# Altium schematic symbol library Schematic-FragasLab.SchLib: 425 symbols (part 4 of 7)
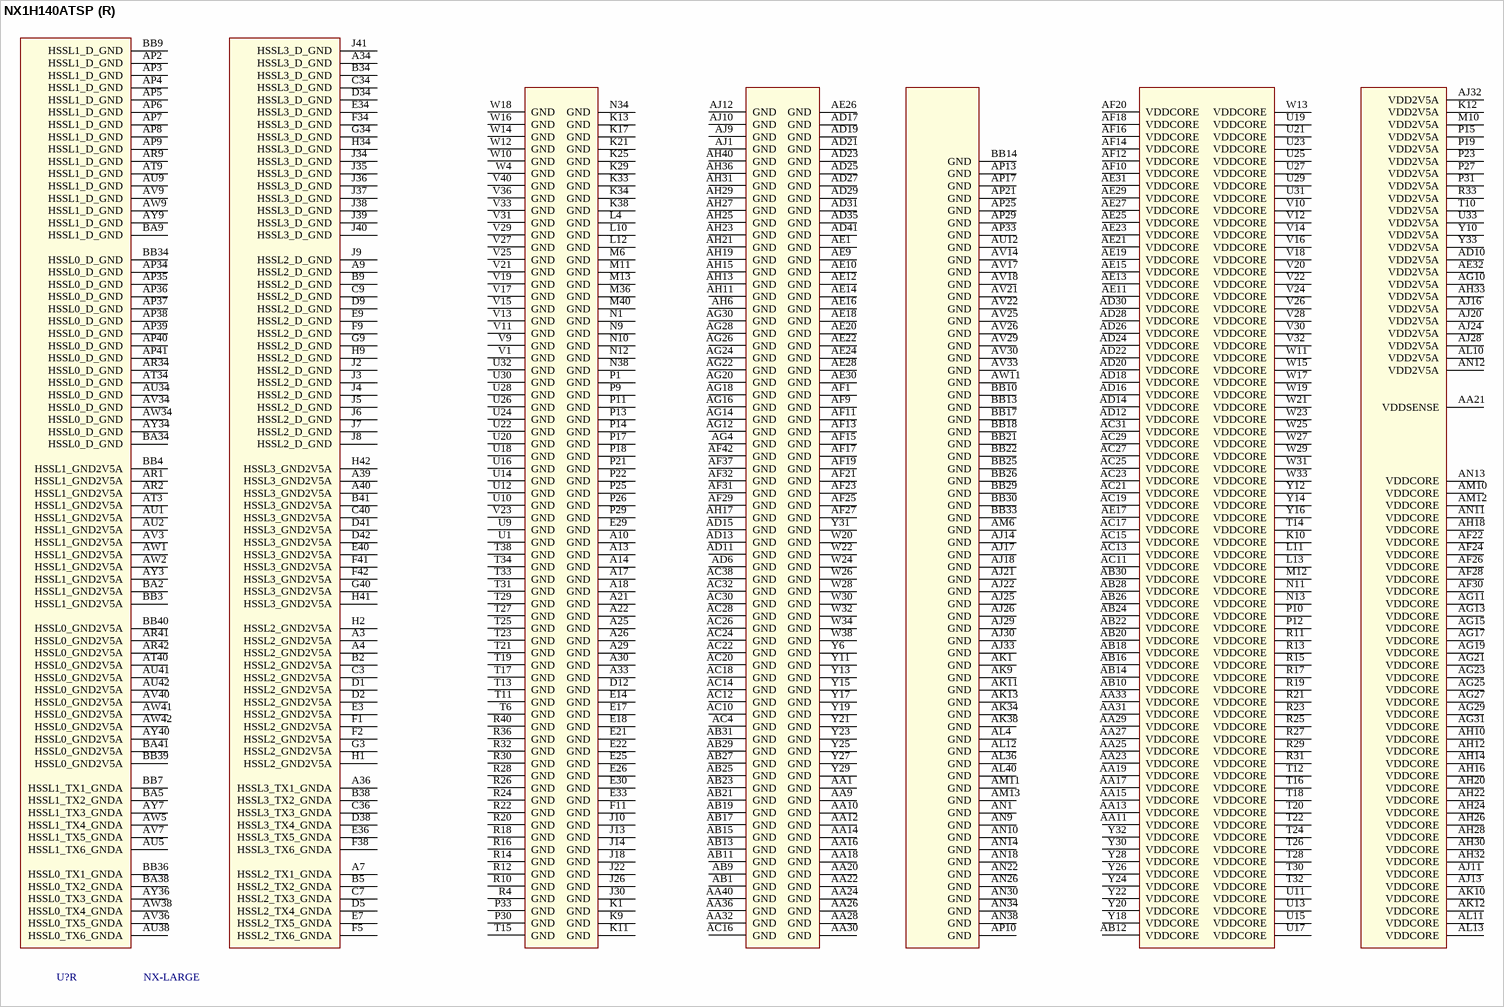
[diagram p45: symbol NX1H140ATSP]

## NX1H140ATSP
designator U?, comment value NX-LARGE  (hidden comment: NG-LARGE)
NX-LARGE plastic in LGA-1752 NG-LARGE with 137 KLUT / 129Kreg / ARM-R5; Part manufacturer: NANOXPLORE; Power: 0.063W; Voltage: 1.2V; ComponentLink1Description: Manufacturer Link; ComponentLink1URL: http://www.panasonic.com/industrial/components/resistive_products.htm; ComponentLink2Description: Datasheet; ComponentLink2URL: http://www.panasonic.com/industrial/components/pdf/AOA0000CE2.pdf; Part number: NX-LARGE; Supplier code: TBD; Supplier: Nanoxplore; Footprint: BGA-1752
footprint CLGA-1752
part A pins: AB32 VDDIO_SERVICE, AB33 TMS, AB34 TCK, AB35 MODE0, AB36 MODE1, AB37 MODE2, AB38 VDDIO_SERVICE, AB39 SOUT_N, AB40 DOUT_N, AB41 SIN_N, AB42 DIN_N, AC33 TDO, AC34 TDI, AC35 TRST, AC36 ERROR, AC37 RST_HARD_N, AC39 SOUT_P, AC40 DOUT_P, AC41 SIN_P, AC42 DIN_P, AD32 D3, AD33 D2, AD34 D1, AD36 D0, AD37 FABRIC_USER0, AD38 FABRIC_USER1, AD39 FABRIC_USER3, AD40 FABRIC_USER2, AD42 VDDIO_SW, AE33 D6, AE34 D7, AE35 D5, AE36 D4, AE37 READY, AE38 TYPE1, AE39 POK, AE40 ID1, AE41 CLK, AE42 CLK_OSC, AF33 D10, AF34 D9, AF35 D8, AF36 D11, AF38 DATA_OE, AF39 ID3, AF40 ID2, AF41 ID0, AG32 VDDIO_SERVICE, AG33 D13, AG34 D12, AG35 D14, AG36 D15, AG37 VDDIO_SERVICE, AG38 TYPE0, AG39 TRIGGER, AG40 CS, AG41 RST_SOFT_N, AG42 VDDIO_SERVICE
part B pins: AA34 VDDIO_03, AA35 IO_B03D02N, AA37 IO_B03D08N, AA38 VDDIO_03, AA39 IO_B03D05N, AA41 IO_B03D09N, AA42 VDDIO_03, K35 IO_B00D01P_CLK, K36 VDDIO_00, K37 IO_B00D06N, K39 IO_B00D04N, K40 VDDIO_00, K41 IO_B00D03P, K42 IO_B00D03N, L34 IO_B00D01N, L35 IO_B00D02P_CLK, L36 IO_B00D06P, L37 IO_B00D08P, L38 IO_B00D04P, L39 IO_B00D05P, L40 IO_B00D07N, L41 IO_B00D07P, L42 IO_B00D09P, M34 VDDIO_00, M35 IO_B00D02N, M37 IO_B00D08N, M38 VDDIO_00, M39 IO_B00D05N, M41 IO_B00D09N, M42 VDDIO_00, N35 IO_B01D01P, N36 VDDIO_01, N37 IO_B01D06N, N39 IO_B01D04N, N40 VDDIO_01, N41 IO_B01D03P, N42 IO_B01D03N, P34 IO_B01D01N, P35 IO_B01D02P, P36 IO_B01D06P, P37 IO_B01D08P, P38 IO_B01D04P, P39 IO_B01D05P, P40 IO_B01D07N, P41 IO_B01D07P, P42 IO_B01D09P, R34 VDDIO_01, R35 IO_B01D02N, R37 IO_B01D08N, R38 VDDIO_01, R39 IO_B01D05N, R41 IO_B01D09N, R42 VDDIO_01, T35 IO_B02D01P, T36 VDDIO_02, T37 IO_B02D06N, T39 IO_B02D04N, T40 VDDIO_02, T41 IO_B02D03P, T42 IO_B02D03N, U34 IO_B02D01N, U35 IO_B02D02P, U36 IO_B02D06P, U37 IO_B02D08P, U38 IO_B02D04P, U39 IO_B02D05P, U40 IO_B02D07N, U41 IO_B02D07P, U42 IO_B02D09P, V34 VDDIO_02, V35 IO_B02D02N, V37 IO_B02D08N, V38 VDDIO_02, V39 IO_B02D05N, V41 IO_B02D09N, V42 VDDIO_02, W35 IO_B03D01P, W36 VDDIO_03, W37 IO_B03D06N, W39 IO_B03D04N, W40 VDDIO_03, W41 IO_B03D03P, W42 IO_B03D03N, Y34 IO_B03D01N, Y35 IO_B03D02P, Y36 IO_B03D06P, Y37 IO_B03D08P, Y38 IO_B03D04P, Y39 IO_B03D05P, Y40 IO_B03D07N, Y41 IO_B03D07P, Y42 IO_B03D09P
part C pins: AH34 VDDIO_04, AH35 IO_B04D02N, AH37 IO_B04D08N, AH38 VDDIO_04, AH39 IO_B04D05N, AH41 IO_B04D09N, AH42 VDDIO_04, AJ34 IO_B04D01N, AJ35 IO_B04D02P, AJ36 IO_B04D06P, AJ37 IO_B04D08P, AJ38 IO_B04D04P, AJ39 IO_B04D05P, AJ40 IO_B04D07N, AJ41 IO_B04D07P, AJ42 IO_B04D09P, AK35 IO_B04D01P, AK36 VDDIO_04, AK37 IO_B04D06N, AK39 IO_B04D04N, AK40 VDDIO_04, AK41 IO_B04D03P, AK42 IO_B04D03N, AL34 VDDIO_05, AL35 IO_B05D02N, AL37 IO_B05D08N, AL38 VDDIO_05, AL39 IO_B05D05N, AL41 IO_B05D09N, AL42 VDDIO_05, AM34 IO_B05D01N, AM35 IO_B05D02P_CLK, AM36 IO_B05D06P, AM37 IO_B05D08P, AM38 IO_B05D04P, AM39 IO_B05D05P, AM40 IO_B05D07N, AM41 IO_B05D07P, AM42 IO_B05D09P, AN35 IO_B05D01P_CLK, AN36 VDDIO_05, AN37 IO_B05D06N, AN39 IO_B05D04N, AN40 VDDIO_05, AN41 IO_B05D03P, AN42 IO_B05D03N
part D pins: AK2 VDDIO_12, AK3 IO_B12D08P, AK4 IO_B12D10N, AK5 IO_B12D10P, AK6 IO_B12D12P, AK7 IO_B12D11N, AK8 IO_B12D11P, AL1 IO_B12D07N, AL2 IO_B12D07P, AL3 IO_B12D08N, AL5 IO_B12D12N, AL6 VDDIO_12, AL7 IO_B12D09N, AL8 IO_B12D09P, AL9 VDDIO_12, AM1 IO_B12D06N, AM2 IO_B12D06P, AM3 IO_B12D05P, AM4 VDDIO_12, AM5 IO_B12D01N, AM7 IO_B12D04N, AM8 IO_B12D04P, AM9 VDDIO_12, AN2 VDDIO_12, AN3 IO_B12D05N, AN4 IO_B12D03N, AN5 IO_B12D03P, AN6 IO_B12D01P, AN7 IO_B12D02N, AN8 IO_B12D02P, AP11 VDDIO_11, AP12 VDDIO_11, AR10 IO_B11D11P_CLK, AR11 IO_B11D09P, AR12 IO_B11D04P, AR13 IO_B11D02P, AT10 IO_B11D11N, AT11 IO_B11D09N, AT12 IO_B11D04N, AT13 IO_B11D02N, AU10 IO_B11D12P_CLK, AU11 VDDIO_11, AU13 IO_B11D01P, AV10 IO_B11D10P, AV11 IO_B11D12N, AV12 IO_B11D01N, AV13 IO_B11D03P, AW10 IO_B11D10N, AW12 VDDIO_11, AW13 IO_B11D03N, AY10 IO_B11D08P, AY11 IO_B11D08N, AY12 IO_B11D05P, AY13 IO_B11D05N, BA10 VDDIO_11, BA11 IO_B11D07P, BA12 IO_B11D06P, BA13 VDDIO_11, BB11 IO_B11D07N, BB12 IO_B11D06N
part E pins: AB2 VDDIO_14, AB3 IO_B14D08P, AB4 IO_B14D10N, AB5 IO_B14D10P, AB6 IO_B14D12P, AB7 IO_B14D11N, AB8 IO_B14D11P, AC1 IO_B14D07N, AC2 IO_B14D07P, AC3 IO_B14D08N, AC5 IO_B14D12N, AC6 VDDIO_14, AC7 IO_B14D09N, AC8 IO_B14D09P, AC9 VDDIO_14, AD1 IO_B14D06N, AD2 IO_B14D06P, AD3 IO_B14D05P, AD4 VDDIO_14, AD5 IO_B14D01N, AD7 IO_B14D04N, AD8 IO_B14D04P, AD9 VDDIO_14, AE2 VDDIO_14, AE3 IO_B14D05N, AE4 IO_B14D03N, AE5 IO_B14D03P, AE6 IO_B14D01P, AE7 IO_B14D02N, AE8 IO_B14D02P, AF2 VDDIO_13, AF3 IO_B13D08P, AF4 IO_B13D10N, AF5 IO_B13D10P, AF6 IO_B13D12P, AF7 IO_B13D11N, AF8 IO_B13D11P, AG1 IO_B13D07N, AG2 IO_B13D07P, AG3 IO_B13D08N, AG5 IO_B13D12N, AG6 VDDIO_13, AG7 IO_B13D09N, AG8 IO_B13D09P, AG9 VDDIO_13, AH1 IO_B13D06N, AH2 IO_B13D06P, AH3 IO_B13D05P, AH4 VDDIO_13, AH5 IO_B13D01N, AH7 IO_B13D04N, AH8 IO_B13D04P, AH9 VDDIO_13, AJ2 VDDIO_13, AJ3 IO_B13D05N, AJ4 IO_B13D03N, AJ5 IO_B13D03P, AJ6 IO_B13D01P, AJ7 IO_B13D02N, AJ8 IO_B13D02P
part F pins: AA2 VDDIO_15, AA3 IO_B15D05N, AA4 IO_B15D03N, AA5 IO_B15D03P, AA6 IO_B15D01P, AA7 IO_B15D02N, AA8 IO_B15D02P, P2 VDDIO_16, P3 IO_B16D08P, P4 IO_B16D10N, P5 IO_B16D10P, P6 IO_B16D12P, P7 IO_B16D11N, P8 IO_B16D11P, R1 IO_B16D07N, R2 IO_B16D07P, R3 IO_B16D08N, R5 IO_B16D12N, R6 VDDIO_16, R7 IO_B16D09N, R8 IO_B16D09P, R9 VDDIO_16, T1 IO_B16D06N, T2 IO_B16D06P, T3 IO_B16D05P, T4 VDDIO_16, T5 IO_B16D01N, T7 IO_B16D04N, T8 IO_B16D04P, T9 VDDIO_16, U2 VDDIO_16, U3 IO_B16D05N, U4 IO_B16D03N, U5 IO_B16D03P, U6 IO_B16D01P, U7 IO_B16D02N, U8 IO_B16D02P, V2 VDDIO_15, V3 IO_B15D08P, V4 IO_B15D10N, V5 IO_B15D10P, V6 IO_B15D12P, V7 IO_B15D11N, V8 IO_B15D11P, W1 IO_B15D07N, W2 IO_B15D07P, W3 IO_B15D08N, W5 IO_B15D12N, W6 VDDIO_15, W7 IO_B15D09N, W8 IO_B15D09P, W9 VDDIO_15, Y1 IO_B15D06N, Y2 IO_B15D06P, Y3 IO_B15D05P, Y4 VDDIO_15, Y5 IO_B15D01N, Y7 IO_B15D04N, Y8 IO_B15D04P, Y9 VDDIO_15
part G pins: A11 IO_B18D06N, A12 IO_B18D07N, B10 VDDIO_18, B11 IO_B18D06P, B12 IO_B18D07P, B13 VDDIO_18, C10 IO_B18D05N, C11 IO_B18D05P, C12 IO_B18D08N, C13 IO_B18D08P, D10 IO_B18D03N, D11 VDDIO_18, D13 IO_B18D10N, E10 IO_B18D03P, E11 IO_B18D01N, E12 IO_B18D12N, E13 IO_B18D10P, F10 IO_B18D01P_CLK, F12 VDDIO_18, F13 IO_B18D12P, G10 IO_B18D02N, G11 IO_B18D04N, G12 IO_B18D09N, G13 IO_B18D11N, H10 IO_B18D02P_CLK, H11 IO_B18D04P, H12 IO_B18D09P, H13 IO_B18D11P, J11 VDDIO_18, J12 VDDIO_18, K2 VDDIO_17, K3 IO_B17D08P, K4 IO_B17D10N, K5 IO_B17D10P, K6 IO_B17D12P, K7 IO_B17D11N, K8 IO_B17D11P, L1 IO_B17D07N, L2 IO_B17D07P, L3 IO_B17D08N, L5 IO_B17D12N, L6 VDDIO_17, L7 IO_B17D09N, L8 IO_B17D09P, L9 VDDIO_17, M1 IO_B17D06N, M2 IO_B17D06P, M3 IO_B17D05P, M4 VDDIO_17, M5 IO_B17D01N, M7 IO_B17D04N, M8 IO_B17D04P, M9 VDDIO_17, N2 VDDIO_17, N3 IO_B17D05N, N4 IO_B17D03N, N5 IO_B17D03P, N6 IO_B17D01P, N7 IO_B17D02N, N8 IO_B17D02P
part H pins: AJ27 VTO_07, AJ31 VTO_06, AK26 IO_B07D02P_DQ_SWSO, AK27 VDDIO_07, AK28 VDDIO_07, AK29 IO_B07D01P_DQ_SWDO, AK30 IO_B06D02P_DQ_SWSO, AK31 VDDIO_06, AK32 VDDIO_06, AK33 IO_B06D01P_DQ_SWDO, AL26 IO_B07D02N_DQ_SWSO, AL27 IO_B07D03N_DQS_SWDI, AL28 IO_B07D03P_DQS_SWDI, AL29 IO_B07D01N_DQ_SWDO, AL30 IO_B06D02N_DQ_SWSO, AL31 IO_B06D03N_DQS_SWDI, AL32 IO_B06D03P_DQS_SWDI, AL33 IO_B06D01N_DQ_SWDO, AM26 IO_B07D05N_DQ, AM27 IO_B07D05P_DQ, AM28 IO_B07D04N_DQ_SWSI, AM29 IO_B07D04P_DQ_SWSI, AM30 IO_B06D05N_DQ, AM31 IO_B06D05P_DQ, AM32 IO_B06D04N_DQ_SWSI, AM33 IO_B06D04P_DQ_SWSI, AN27 IO_B07D06N_CAL, AN28 VTO_07, AN29 IO_B07D06P_DQ, AN31 IO_B06D06N_CAL, AN32 VTO_06, AN33 IO_B06D06P_DQ, AP26 IO_B07D07P, AP27 VDDIO_07, AP28 VDDIO_07, AP30 IO_B06D07P, AP31 VDDIO_06, AP32 VDDIO_06, AR26 IO_B07D07N, AR27 IO_B07D08N, AR28 IO_B07D08P, AR29 IO_B07D09P, AR30 IO_B06D07N, AR31 IO_B06D08N, AR32 IO_B06D08P, AR33 IO_B06D09P_CLK, AT26 IO_B07D11P, AT27 IO_B07D10N, AT28 IO_B07D10P, AT29 IO_B07D09N, AT30 IO_B06D11P, AT31 IO_B06D10N, AT32 IO_B06D10P_CLK, AT33 IO_B06D09N, AU26 IO_B07D11N, AU27 VDDIO_07, AU28 VDDIO_07, AU29 IO_B07D13P_DQ, AU30 IO_B06D11N, AU31 VDDIO_06, AU32 VDDIO_06, AU33 IO_B06D13P_DQ, AV27 VTO_07, AV28 IO_B07D13N_DQ, AV31 VTO_06, AV32 IO_B06D13N_DQ, AW26 IO_B07D16N_DQ_SWDI, AW27 IO_B07D16P_DQ_SWDI, AW28 IO_B07D14N_DQ_SWDO, AW29 IO_B07D14P_DQ_SWDO, AW30 IO_B06D16N_DQ_SWDI, AW31 IO_B06D16P_DQ_SWDI, AW32 IO_B06D14N_DQ_SWDO, AW33 IO_B06D14P_DQ_SWDO, AY26 IO_B07D17P_DQ_SWSI, AY27 IO_B07D15N_DQS_SWSO, AY28 IO_B07D15P_DQS_SWSO, AY29 IO_B07D12P, AY30 IO_B06D17P_DQ_SWSI, AY31 IO_B06D15N_DQS_SWSO, AY32 IO_B06D15P_DQS_SWSO, AY33 IO_B06D12P, BA26 IO_B07D17N_DQ_SWSI, BA27 VDDIO_07, BA28 VDDIO_07, BA29 IO_B07D12N_DQ, BA30 IO_B06D17N_DQ_SWSI, BA31 VDDIO_06, BA32 VDDIO_06, BA33 IO_B06D12N_DQ, BB27 VDDS_07, BB28 VTO_07, BB31 VDDS_06, BB32 VTO_06
part I pins: AJ19 VTO_09, AJ23 VTO_08, AK18 IO_B09D02P_DQ_SWSO, AK19 VDDIO_09, AK20 VDDIO_09, AK21 IO_B09D01P_DQ_SWDO, AK22 IO_B08D02P_DQ_SWSO, AK23 VDDIO_08, AK24 VDDIO_08, AK25 IO_B08D01P_DQ_SWDO, AL18 IO_B09D02N_DQ_SWSO, AL19 IO_B09D03N_DQS_SWDI, AL20 IO_B09D03P_DQS_SWDI, AL21 IO_B09D01N_DQ_SWDO, AL22 IO_B08D02N_DQ_SWSO, AL23 IO_B08D03N_DQS_SWDI, AL24 IO_B08D03P_DQS_SWDI, AL25 IO_B08D01N_DQ_SWDO, AM18 IO_B09D05N_DQ, AM19 IO_B09D05P_DQ, AM20 IO_B09D04N_DQ_SWSI, AM21 IO_B09D04P_DQ_SWSI, AM22 IO_B08D05N_DQ, AM23 IO_B08D05P_DQ, AM24 IO_B08D04N_DQ_SWSI, AM25 IO_B08D04P_DQ_SWSI, AN19 IO_B09D06N_CAL, AN20 VTO_09, AN21 IO_B09D06P_DQ, AN23 IO_B08D06N_CAL, AN24 VTO_08, AN25 IO_B08D06P_DQ, AP18 IO_B09D07P, AP19 VDDIO_09, AP20 VDDIO_09, AP22 IO_B08D07P, AP23 VDDIO_08, AP24 VDDIO_08, AR18 IO_B09D07N, AR19 IO_B09D08N, AR20 IO_B09D08P, AR21 IO_B09D09P, AR22 IO_B08D07N, AR23 IO_B08D08N, AR24 IO_B08D08P, AR25 IO_B08D09P, AT18 IO_B09D11P, AT19 IO_B09D10N, AT20 IO_B09D10P, AT21 IO_B09D09N, AT22 IO_B08D11P, AT23 IO_B08D10N, AT24 IO_B08D10P, AT25 IO_B08D09N, AU18 IO_B09D11N, AU19 VDDIO_09, AU20 VDDIO_09, AU21 IO_B09D13P_DQ, AU22 IO_B08D11N, AU23 VDDIO_08, AU24 VDDIO_08, AU25 IO_B08D13P_DQ, AV19 VTO_09, AV20 IO_B09D13N_DQ, AV23 VTO_08, AV24 IO_B08D13N_DQ, AW18 IO_B09D16N_DQ_SWDI, AW19 IO_B09D16P_DQ_SWDI, AW20 IO_B09D14N_DQ_SWDO, AW21 IO_B09D14P_DQ_SWDO, AW22 IO_B08D16N_DQ_SWDI, AW23 IO_B08D16P_DQ_SWDI, AW24 IO_B08D14N_DQ_SWDO, AW25 IO_B08D14P_DQ_SWDO, AY18 IO_B09D17P_DQ_SWSI, AY19 IO_B09D15N_DQS_SWSO, AY20 IO_B09D15P_DQS_SWSO, AY21 IO_B09D12P, AY22 IO_B08D17P_DQ_SWSI, AY23 IO_B08D15N_DQS_SWSO, AY24 IO_B08D15P_DQS_SWSO, AY25 IO_B08D12P, BA18 IO_B09D17N_DQ_SWSI, BA19 VDDIO_09, BA20 VDDIO_09, BA21 IO_B09D12N_DQ, BA22 IO_B08D17N_DQ_SWSI, BA23 VDDIO_08, BA24 VDDIO_08, BA25 IO_B08D12N_DQ, BB19 VDDS_09, BB20 VTO_09, BB23 VDDS_08, BB24 VTO_08
part J pins: AJ15 VTO_10, AK14 IO_B10D02P_DQ_SWSO, AK15 VDDIO_10, AK16 VDDIO_10, AK17 IO_B10D01P_DQ_SWDO, AL14 IO_B10D02N_DQ_SWSO, AL15 IO_B10D03N_DQS_SWDI, AL16 IO_B10D03P_DQS_SWDI, AL17 IO_B10D01N_DQ_SWDO, AM14 IO_B10D05N_DQ, AM15 IO_B10D05P_DQ, AM16 IO_B10D04N_DQ_SWSI, AM17 IO_B10D04P_DQ_SWSI, AN15 IO_B10D06N_CAL, AN16 VTO_10, AN17 IO_B10D06P_DQ, AP14 IO_B10D07P, AP15 VDDIO_10, AP16 VDDIO_10, AR14 IO_B10D07N, AR15 IO_B10D08N, AR16 IO_B10D08P, AR17 IO_B10D09P_CLK, AT14 IO_B10D11P, AT15 IO_B10D10N, AT16 IO_B10D10P_CLK, AT17 IO_B10D09N, AU14 IO_B10D11N, AU15 VDDIO_10, AU16 VDDIO_10, AU17 IO_B10D13P_DQ, AV15 VTO_10, AV16 IO_B10D13N_DQ, AW14 IO_B10D16N_DQ_SWDI, AW15 IO_B10D16P_DQ_SWDI, AW16 IO_B10D14N_DQ_SWDO, AW17 IO_B10D14P_DQ_SWDO, AY14 IO_B10D17P_DQ_SWSI, AY15 IO_B10D15N_DQS_SWSO, AY16 IO_B10D15P_DQS_SWSO, AY17 IO_B10D12P, BA14 IO_B10D17N_DQ_SWSI, BA15 VDDIO_10, BA16 VDDIO_10, BA17 IO_B10D12N_DQ, BB15 VDDS_10, BB16 VTO_10
part K pins: A15 VTO_19, A16 VDDS_19, A19 VTO_20, A20 VDDS_20, B14 IO_B19D12N_DQ, B15 VDDIO_19, B16 VDDIO_19, B17 IO_B19D17N_DQ_SWSI, B18 IO_B20D12N_DQ, B19 VDDIO_20, B20 VDDIO_20, B21 IO_B20D17N_DQ_SWSI, C14 IO_B19D12P, C15 IO_B19D15P_DQS_SWSO, C16 IO_B19D15N_DQS_SWSO, C17 IO_B19D17P_DQ_SWSI, C18 IO_B20D12P, C19 IO_B20D15P_DQS_SWSO, C20 IO_B20D15N_DQS_SWSO, C21 IO_B20D17P_DQ_SWSI, D14 IO_B19D14P_DQ_SWDO, D15 IO_B19D14N_DQ_SWDO, D16 IO_B19D16P_DQ_SWDI, D17 IO_B19D16N_DQ_SWDI, D18 IO_B20D14P_DQ_SWDO, D19 IO_B20D14N_DQ_SWDO, D20 IO_B20D16P_DQ_SWDI, D21 IO_B20D16N_DQ_SWDI, E15 IO_B19D13N_DQ, E16 VTO_19, E19 IO_B20D13N_DQ, E20 VTO_20, F14 IO_B19D13P_DQ, F15 VDDIO_19, F16 VDDIO_19, F17 IO_B19D11N, F18 IO_B20D13P_DQ, F19 VDDIO_20, F20 VDDIO_20, F21 IO_B20D11N, G14 IO_B19D09N, G15 IO_B19D10P_CLK, G16 IO_B19D10N, G17 IO_B19D11P, G18 IO_B20D09N, G19 IO_B20D10P, G20 IO_B20D10N, G21 IO_B20D11P, H14 IO_B19D09P_CLK, H15 IO_B19D08P, H16 IO_B19D08N, H17 IO_B19D07N, H18 IO_B20D09P, H19 IO_B20D08P, H20 IO_B20D08N, H21 IO_B20D07N, J15 VDDIO_19, J16 VDDIO_19, J17 IO_B19D07P, J19 VDDIO_20, J20 VDDIO_20, J21 IO_B20D07P, K14 IO_B19D06P_DQ, K15 VTO_19, K16 IO_B19D06N_CAL, K18 IO_B20D06P_DQ, K19 VTO_20, K20 IO_B20D06N_CAL, L14 IO_B19D04P_DQ_SWSI, L15 IO_B19D04N_DQ_SWSI, L16 IO_B19D05P_DQ, L17 IO_B19D05N_DQ, L18 IO_B20D04P_DQ_SWSI, L19 IO_B20D04N_DQ_SWSI, L20 IO_B20D05P_DQ, L21 IO_B20D05N_DQ, M14 IO_B19D01N_DQ_SWDO, M15 IO_B19D03P_DQS_SWDI, M16 IO_B19D03N_DQS_SWDI, M17 IO_B19D02N_DQ_SWSO, M18 IO_B20D01N_DQ_SWDO, M19 IO_B20D03P_DQS_SWDI, M20 IO_B20D03N_DQS_SWDI, M21 IO_B20D02N_DQ_SWSO, N14 IO_B19D01P_DQ_SWDO, N15 VDDIO_19, N16 VDDIO_19, N17 IO_B19D02P_DQ_SWSO, N18 IO_B20D01P_DQ_SWDO, N19 VDDIO_20, N20 VDDIO_20, N21 IO_B20D02P_DQ_SWSO, P16 VTO_19, P20 VTO_20
part L pins: A23 VTO_21, A24 VDDS_21, A27 VTO_22, A28 VDDS_22, B22 IO_B21D12N_DQ, B23 VDDIO_21, B24 VDDIO_21, B25 IO_B21D17N_DQ_SWSI, B26 IO_B22D12N_DQ, B27 VDDIO_22, B28 VDDIO_22, B29 IO_B22D17N_DQ_SWSI, C22 IO_B21D12P, C23 IO_B21D15P_DQS_SWSO, C24 IO_B21D15N_DQS_SWSO, C25 IO_B21D17P_DQ_SWSI, C26 IO_B22D12P, C27 IO_B22D15P_DQS_SWSO, C28 IO_B22D15N_DQS_SWSO, C29 IO_B22D17P_DQ_SWSI, D22 IO_B21D14P_DQ_SWDO, D23 IO_B21D14N_DQ_SWDO, D24 IO_B21D16P_DQ_SWDI, D25 IO_B21D16N_DQ_SWDI, D26 IO_B22D14P_DQ_SWDO, D27 IO_B22D14N_DQ_SWDO, D28 IO_B22D16P_DQ_SWDI, D29 IO_B22D16N_DQ_SWDI, E23 IO_B21D13N_DQ, E24 VTO_21, E27 IO_B22D13N_DQ, E28 VTO_22, F22 IO_B21D13P_DQ, F23 VDDIO_21, F24 VDDIO_21, F25 IO_B21D11N, F26 IO_B22D13P_DQ, F27 VDDIO_22, F28 VDDIO_22, F29 IO_B22D11N, G22 IO_B21D09N, G23 IO_B21D10P, G24 IO_B21D10N, G25 IO_B21D11P, G26 IO_B22D09N, G27 IO_B22D10P, G28 IO_B22D10N, G29 IO_B22D11P, H22 IO_B21D09P, H23 IO_B21D08P, H24 IO_B21D08N, H25 IO_B21D07N, H26 IO_B22D09P, H27 IO_B22D08P, H28 IO_B22D08N, H29 IO_B22D07N, J23 VDDIO_21, J24 VDDIO_21, J25 IO_B21D07P, J27 VDDIO_22, J28 VDDIO_22, J29 IO_B22D07P, K22 IO_B21D06P_DQ, K23 VTO_21, K24 IO_B21D06N_CAL, K26 IO_B22D06P_DQ, K27 VTO_22, K28 IO_B22D06N_CAL, L22 IO_B21D04P_DQ_SWSI, L23 IO_B21D04N_DQ_SWSI, L24 IO_B21D05P_DQ, L25 IO_B21D05N_DQ, L26 IO_B22D04P_DQ_SWSI, L27 IO_B22D04N_DQ_SWSI, L28 IO_B22D05P_DQ, L29 IO_B22D05N_DQ, M22 IO_B21D01N_DQ_SWDO, M23 IO_B21D03P_DQS_SWDI, M24 IO_B21D03N_DQS_SWDI, M25 IO_B21D02N_DQ_SWSO, M26 IO_B22D01N_DQ_SWDO, M27 IO_B22D03P_DQS_SWDI, M28 IO_B22D03N_DQS_SWDI, M29 IO_B22D02N_DQ_SWSO, N22 IO_B21D01P_DQ_SWDO, N23 VDDIO_21, N24 VDDIO_21, N25 IO_B21D02P_DQ_SWSO, N26 IO_B22D01P_DQ_SWDO, N27 VDDIO_22, N28 VDDIO_22, N29 IO_B22D02P_DQ_SWSO, P24 VTO_21, P28 VTO_22
part M pins: A31 VTO_23, A32 VDDS_23, B30 IO_B23D12N_DQ, B31 VDDIO_23, B32 VDDIO_23, B33 IO_B23D17N_DQ_SWSI, C30 IO_B23D12P, C31 IO_B23D15P_DQS_SWSO, C32 IO_B23D15N_DQS_SWSO, C33 IO_B23D17P_DQ_SWSI, D30 IO_B23D14P_DQ_SWDO, D31 IO_B23D14N_DQ_SWDO, D32 IO_B23D16P_DQ_SWDI, D33 IO_B23D16N_DQ_SWDI, E31 IO_B23D13N_DQ, E32 VTO_23, F30 IO_B23D13P_DQ, F31 VDDIO_23, F32 VDDIO_23, F33 IO_B23D11N, G30 IO_B23D09N, G31 IO_B23D10P_CLK, G32 IO_B23D10N, G33 IO_B23D11P, H30 IO_B23D09P_CLK, H31 IO_B23D08P, H32 IO_B23D08N, H33 IO_B23D07N, J31 VDDIO_23, J32 VDDIO_23, J33 IO_B23D07P, K30 IO_B23D06P_DQ, K31 VTO_23, K32 IO_B23D06N_CAL, L30 IO_B23D04P_DQ_SWSI, L31 IO_B23D04N_DQ_SWSI, L32 IO_B23D05P_DQ, L33 IO_B23D05N_DQ, M30 IO_B23D01N_DQ_SWDO, M31 IO_B23D03P_DQS_SWDI, M32 IO_B23D03N_DQS_SWDI, M33 IO_B23D02N_DQ_SWSO, N30 IO_B23D01P_DQ_SWDO, N31 VDDIO_23, N32 VDDIO_23, N33 IO_B23D02P_DQ_SWSO, P32 VTO_23
part N pins: AP42 HSSL0_CALIBRATE, AR35 HSSL0_D_VDD, AR36 HSSL0_D_VDD, AR37 HSSL0_D_VDD, AR38 HSSL0_D_VDD, AR39 HSSL0_CLKREFN, AR40 HSSL0_CLKREFP, AT35 HSSL0_D_VDD, AT36 HSSL0_D_VDD, AT37 HSSL0_D_VDD, AT38 HSSL0_D_VDD, AT39 HSSL0_VDD2V5A, AT41 HSSL0_RX6N, AT42 HSSL0_RX6P, AU35 HSSL0_TX6N, AU36 HSSL0_TX6P, AU37 HSSL0_TX6_VDDA, AU39 HSSL0_RX5N, AU40 HSSL0_RX5P, AV35 HSSL0_TX5_VDDA, AV37 HSSL0_TX5N, AV38 HSSL0_TX5P, AV39 HSSL0_VDD2V5A, AV41 HSSL0_RX4N, AV42 HSSL0_RX4P, AW35 HSSL0_TX4N, AW36 HSSL0_TX4P, AW37 HSSL0_TX4_VDDA, AW39 HSSL0_RX3N, AW40 HSSL0_RX3P, AY35 HSSL0_TX3_VDDA, AY37 HSSL0_TX3N, AY38 HSSL0_TX3P, AY39 HSSL0_VDD2V5A, AY41 HSSL0_RX2N, AY42 HSSL0_RX2P, BA35 HSSL0_TX2N, BA36 HSSL0_TX2P, BA37 HSSL0_TX2_VDDA, BA39 HSSL0_RX1N, BA40 HSSL0_RX1P, BB35 HSSL0_TX1_VDDA, BB37 HSSL0_TX1N, BB38 HSSL0_TX1P
part O pins: AP1 HSSL1_CALIBRATE, AR3 HSSL1_CLKREFP, AR4 HSSL1_CLKREFN, AR5 HSSL1_D_VDD, AR6 HSSL1_D_VDD, AR7 HSSL1_D_VDD, AR8 HSSL1_D_VDD, AT1 HSSL1_RX6P, AT2 HSSL1_RX6N, AT4 HSSL1_VDD2V5A, AT5 HSSL1_D_VDD, AT6 HSSL1_D_VDD, AT7 HSSL1_D_VDD, AT8 HSSL1_D_VDD, AU3 HSSL1_RX5P, AU4 HSSL1_RX5N, AU6 HSSL1_TX6_VDDA, AU7 HSSL1_TX6P, AU8 HSSL1_TX6N, AV1 HSSL1_RX4P, AV2 HSSL1_RX4N, AV4 HSSL1_VDD2V5A, AV5 HSSL1_TX5P, AV6 HSSL1_TX5N, AV8 HSSL1_TX5_VDDA, AW3 HSSL1_RX3P, AW4 HSSL1_RX3N, AW6 HSSL1_TX4_VDDA, AW7 HSSL1_TX4P, AW8 HSSL1_TX4N, AY1 HSSL1_RX2P, AY2 HSSL1_RX2N, AY4 HSSL1_VDD2V5A, AY5 HSSL1_TX3P, AY6 HSSL1_TX3N, AY8 HSSL1_TX3_VDDA, BA3 HSSL1_RX1P, BA4 HSSL1_RX1N, BA6 HSSL1_TX2_VDDA, BA7 HSSL1_TX2P, BA8 HSSL1_TX2N, BB5 HSSL1_TX1P, BB6 HSSL1_TX1N, BB8 HSSL1_TX1_VDDA
part P pins: A5 HSSL2_TX1P, A6 HSSL2_TX1N, A8 HSSL2_TX1_VDDA, B3 HSSL2_RX1P, B4 HSSL2_RX1N, B6 HSSL2_TX2_VDDA, B7 HSSL2_TX2P, B8 HSSL2_TX2N, C1 HSSL2_RX2P, C2 HSSL2_RX2N, C4 HSSL2_VDD2V5A, C5 HSSL2_TX3P, C6 HSSL2_TX3N, C8 HSSL2_TX3_VDDA, D3 HSSL2_RX3P, D4 HSSL2_RX3N, D6 HSSL2_TX4_VDDA, D7 HSSL2_TX4P, D8 HSSL2_TX4N, E1 HSSL2_RX4P, E2 HSSL2_RX4N, E4 HSSL2_VDD2V5A, E5 HSSL2_TX5P, E6 HSSL2_TX5N, E8 HSSL2_TX5_VDDA, F3 HSSL2_RX5P, F4 HSSL2_RX5N, F6 HSSL2_TX6_VDDA, F7 HSSL2_TX6P, F8 HSSL2_TX6N, G1 HSSL2_RX6P, G2 HSSL2_RX6N, G4 HSSL2_VDD2V5A, G5 HSSL2_D_VDD, G6 HSSL2_D_VDD, G7 HSSL2_D_VDD, G8 HSSL2_D_VDD, H3 HSSL2_CLKREFP, H4 HSSL2_CLKREFN, H5 HSSL2_D_VDD, H6 HSSL2_D_VDD, H7 HSSL2_D_VDD, H8 HSSL2_D_VDD, J1 HSSL2_CALIBRATE
part Q pins: A35 HSSL3_TX1_VDDA, A37 HSSL3_TX1N, A38 HSSL3_TX1P, B35 HSSL3_TX2N, B36 HSSL3_TX2P, B37 HSSL3_TX2_VDDA, B39 HSSL3_RX1N, B40 HSSL3_RX1P, C35 HSSL3_TX3_VDDA, C37 HSSL3_TX3N, C38 HSSL3_TX3P, C39 HSSL3_VDD2V5A, C41 HSSL3_RX2N, C42 HSSL3_RX2P, D35 HSSL3_TX4N, D36 HSSL3_TX4P, D37 HSSL3_TX4_VDDA, D39 HSSL3_RX3N, D40 HSSL3_RX3P, E35 HSSL3_TX5_VDDA, E37 HSSL3_TX5N, E38 HSSL3_TX5P, E39 HSSL3_VDD2V5A, E41 HSSL3_RX4N, E42 HSSL3_RX4P, F35 HSSL3_TX6N, F36 HSSL3_TX6P, F37 HSSL3_TX6_VDDA, F39 HSSL3_RX5N, F40 HSSL3_RX5P, G35 HSSL3_D_VDD, G36 HSSL3_D_VDD, G37 HSSL3_D_VDD, G38 HSSL3_D_VDD, G39 HSSL3_VDD2V5A, G41 HSSL3_RX6N, G42 HSSL3_RX6P, H35 HSSL3_D_VDD, H36 HSSL3_D_VDD, H37 HSSL3_D_VDD, H38 HSSL3_D_VDD, H39 HSSL3_CLKREFN, H40 HSSL3_CLKREFP, J42 HSSL3_CALIBRATE
part R pins: A3 HSSL2_GND2V5A, A4 HSSL2_GND2V5A, A7 HSSL2_TX1_GNDA, A9 HSSL2_D_GND, A10 GND, A13 GND, A14 GND, A17 GND, A18 GND, A21 GND, A22 GND, A25 GND, A26 GND, A29 GND, A30 GND, A33 GND, A34 HSSL3_D_GND, A36 HSSL3_TX1_GNDA, A39 HSSL3_GND2V5A, A40 HSSL3_GND2V5A, AA1 GND, AA9 GND, AA10 GND, AA11 VDDCORE, AA12 GND, AA13 VDDCORE, AA14 GND, AA15 VDDCORE, AA16 GND, AA17 VDDCORE, AA18 GND, AA19 VDDCORE, AA20 GND, AA21 VDDSENSE, AA22 GND, AA23 VDDCORE, AA24 GND, AA25 VDDCORE, AA26 GND, AA27 VDDCORE, AA28 GND, AA29 VDDCORE, AA30 GND, AA31 VDDCORE, AA32 GND, AA33 VDDCORE, AA36 GND, AA40 GND, AB1 GND, AB9 GND, AB10 VDDCORE, AB11 GND, AB12 VDDCORE, AB13 GND, AB14 VDDCORE, AB15 GND, AB16 VDDCORE, AB17 GND, AB18 VDDCORE, AB19 GND, AB20 VDDCORE, AB21 GND, AB22 VDDCORE, AB23 GND, AB24 VDDCORE, AB25 GND, AB26 VDDCORE, AB27 GND, AB28 VDDCORE, AB29 GND, AB30 VDDCORE, AB31 GND, AC4 GND, AC10 GND, AC11 VDDCORE, AC12 GND, AC13 VDDCORE, AC14 GND, AC15 VDDCORE, AC16 GND, AC17 VDDCORE, AC18 GND, AC19 VDDCORE, AC20 GND, AC21 VDDCORE, AC22 GND, AC23 VDDCORE, AC24 GND, AC25 VDDCORE, AC26 GND, AC27 VDDCORE, AC28 GND, AC29 VDDCORE, AC30 GND, AC31 VDDCORE, AC32 GND, AC38 GND, AD6 GND, AD10 VDD2V5A, AD11 GND, AD12 VDDCORE, AD13 GND, AD14 VDDCORE, AD15 GND, AD16 VDDCORE, AD17 GND, AD18 VDDCORE, AD19 GND, AD20 VDDCORE, AD21 GND, AD22 VDDCORE, AD23 GND, AD24 VDDCORE, AD25 GND, AD26 VDDCORE, AD27 GND, AD28 VDDCORE, AD29 GND, AD30 VDDCORE, AD31 GND, AD35 GND, AD41 GND, AE1 GND, AE9 GND, AE10 GND, AE11 VDDCORE, AE12 GND, AE13 VDDCORE, AE14 GND, AE15 VDDCORE, AE16 GND, AE17 VDDCORE, AE18 GND, AE19 VDDCORE, AE20 GND, AE21 VDDCORE, AE22 GND, AE23 VDDCORE, AE24 GND, AE25 VDDCORE, AE26 GND, AE27 VDDCORE, AE28 GND, AE29 VDDCORE, AE30 GND, AE31 VDDCORE, AE32 VDD2V5A, AF1 GND, AF9 GND, AF10 VDDCORE, AF11 GND, AF12 VDDCORE, AF13 GND, AF14 VDDCORE, AF15 GND, AF16 VDDCORE, AF17 GND, AF18 VDDCORE, AF19 GND, AF20 VDDCORE, AF21 GND, AF22 VDDCORE, AF23 GND, AF24 VDDCORE, AF25 GND, AF26 VDDCORE, AF27 GND, AF28 VDDCORE, AF29 GND, AF30 VDDCORE, AF31 GND, AF32 GND, AF37 GND, AF42 GND, AG4 GND, AG10 VDD2V5A, AG11 VDDCORE, AG12 GND, AG13 VDDCORE, AG14 GND, AG15 VDDCORE, AG16 GND, AG17 VDDCORE, AG18 GND, AG19 VDDCORE, AG20 GND, AG21 VDDCORE, AG22 GND, AG23 VDDCORE, AG24 GND, AG25 VDDCORE, AG26 GND, AG27 VDDCORE, AG28 GND, AG29 VDDCORE, AG30 GND, AG31 VDDCORE, AH6 GND, AH10 VDDCORE, AH11 GND, AH12 VDDCORE, AH13 GND, AH14 VDDCORE, AH15 GND, AH16 VDDCORE, AH17 GND, AH18 VDDCORE, AH19 GND, AH20 VDDCORE, AH21 GND, AH22 VDDCORE, AH23 GND, AH24 VDDCORE, AH25 GND, AH26 VDDCORE, AH27 GND, AH28 VDDCORE, AH29 GND, AH30 VDDCORE, AH31 GND, AH32 VDDCORE, AH33 VDD2V5A, AH36 GND, AH40 GND, AJ1 GND, AJ9 GND, AJ10 GND, AJ11 VDDCORE, AJ12 GND, AJ13 VDDCORE, AJ14 GND, AJ16 VDD2V5A, AJ17 GND, AJ18 GND, AJ20 VDD2V5A, AJ21 GND, AJ22 GND, AJ24 VDD2V5A, AJ25 GND, AJ26 GND, AJ28 VDD2V5A, AJ29 GND, AJ30 GND, AJ32 VDD2V5A, AJ33 GND, AK1 GND, AK9 GND, AK10 VDDCORE, AK11 GND, AK12 VDDCORE, AK13 GND, AK34 GND, AK38 GND, AL4 GND, AL10 VDD2V5A, AL11 VDDCORE, AL12 GND, AL13 VDDCORE, AL36 GND, AL40 GND, AM6 GND, AM10 VDDCORE, AM11 GND, AM12 VDDCORE, AM13 GND, AN1 GND, AN9 GND, AN10 GND, AN11 VDDCORE, AN12 VDD2V5A, AN13 VDDCORE, AN14 GND, AN18 GND, AN22 GND, AN26 GND, AN30 GND, AN34 GND, AN38 GND, AP2 HSSL1_D_GND, AP3 HSSL1_D_GND, AP4 HSSL1_D_GND, AP5 HSSL1_D_GND, AP6 HSSL1_D_GND, AP7 HSSL1_D_GND, AP8 HSSL1_D_GND, AP9 HSSL1_D_GND, AP10 GND, AP13 GND, AP17 GND, AP21 GND, AP25 GND, AP29 GND, AP33 GND, AP34 HSSL0_D_GND, AP35 HSSL0_D_GND, AP36 HSSL0_D_GND, AP37 HSSL0_D_GND, AP38 HSSL0_D_GND, AP39 HSSL0_D_GND, AP40 HSSL0_D_GND, AP41 HSSL0_D_GND, AR1 HSSL1_GND2V5A, AR2 HSSL1_GND2V5A, AR9 HSSL1_D_GND, AR34 HSSL0_D_GND, AR41 HSSL0_GND2V5A, AR42 HSSL0_GND2V5A, AT3 HSSL1_GND2V5A, AT9 HSSL1_D_GND, AT34 HSSL0_D_GND, AT40 HSSL0_GND2V5A, AU1 HSSL1_GND2V5A, AU2 HSSL1_GND2V5A, AU5 HSSL1_TX6_GNDA, AU9 HSSL1_D_GND, AU12 GND, AU34 HSSL0_D_GND, AU38 HSSL0_TX6_GNDA, AU41 HSSL0_GND2V5A, AU42 HSSL0_GND2V5A, AV3 HSSL1_GND2V5A, AV7 HSSL1_TX5_GNDA, AV9 HSSL1_D_GND, AV14 GND, AV17 GND, AV18 GND, AV21 GND, AV22 GND, AV25 GND, AV26 GND, AV29 GND, AV30 GND, AV33 GND, AV34 HSSL0_D_GND, AV36 HSSL0_TX5_GNDA, AV40 HSSL0_GND2V5A, AW1 HSSL1_GND2V5A, AW2 HSSL1_GND2V5A, AW5 HSSL1_TX4_GNDA, AW9 HSSL1_D_GND, AW11 GND, AW34 HSSL0_D_GND, AW38 HSSL0_TX4_GNDA, AW41 HSSL0_GND2V5A, AW42 HSSL0_GND2V5A, AY3 HSSL1_GND2V5A, AY7 HSSL1_TX3_GNDA, AY9 HSSL1_D_GND, AY34 HSSL0_D_GND, AY36 HSSL0_TX3_GNDA, AY40 HSSL0_GND2V5A, B2 HSSL2_GND2V5A, B5 HSSL2_TX2_GNDA, B9 HSSL2_D_GND, B34 HSSL3_D_GND, B38 HSSL3_TX2_GNDA, B41 HSSL3_GND2V5A, BA2 HSSL1_GND2V5A, BA5 HSSL1_TX2_GNDA, BA9 HSSL1_D_GND, BA34 HSSL0_D_GND, BA38 HSSL0_TX2_GNDA, BA41 HSSL0_GND2V5A, BB3 HSSL1_GND2V5A, BB4 HSSL1_GND2V5A, BB7 HSSL1_TX1_GNDA, BB9 HSSL1_D_GND, BB10 GND, BB13 GND, BB14 GND, BB17 GND, BB18 GND, BB21 GND, BB22 GND, BB25 GND, BB26 GND, BB29 GND, BB30 GND, BB33 GND, BB34 HSSL0_D_GND, BB36 HSSL0_TX1_GNDA, BB39 HSSL0_GND2V5A, BB40 HSSL0_GND2V5A, C3 HSSL2_GND2V5A, C7 HSSL2_TX3_GNDA, C9 HSSL2_D_GND, C34 HSSL3_D_GND, C36 HSSL3_TX3_GNDA, C40 HSSL3_GND2V5A, D1 HSSL2_GND2V5A, D2 HSSL2_GND2V5A, D5 HSSL2_TX4_GNDA, D9 HSSL2_D_GND, D12 GND, D34 HSSL3_D_GND, D38 HSSL3_TX4_GNDA, D41 HSSL3_GND2V5A, D42 HSSL3_GND2V5A, E3 HSSL2_GND2V5A, E7 HSSL2_TX5_GNDA, E9 HSSL2_D_GND, E14 GND, E17 GND, E18 GND, E21 GND, E22 GND, E25 GND, E26 GND, E29 GND, E30 GND, E33 GND, E34 HSSL3_D_GND, E36 HSSL3_TX5_GNDA, E40 HSSL3_GND2V5A, F1 HSSL2_GND2V5A, F2 HSSL2_GND2V5A, F5 HSSL2_TX6_GNDA, F9 HSSL2_D_GND, F11 GND, F34 HSSL3_D_GND, F38 HSSL3_TX6_GNDA, F41 HSSL3_GND2V5A, F42 HSSL3_GND2V5A, G3 HSSL2_GND2V5A, G9 HSSL2_D_GND, G34 HSSL3_D_GND, G40 HSSL3_GND2V5A, H1 HSSL2_GND2V5A, H2 HSSL2_GND2V5A, H9 HSSL2_D_GND, H34 HSSL3_D_GND, H41 HSSL3_GND2V5A, H42 HSSL3_GND2V5A, J2 HSSL2_D_GND, J3 HSSL2_D_GND, J4 HSSL2_D_GND, J5 HSSL2_D_GND, J6 HSSL2_D_GND, J7 HSSL2_D_GND, J8 HSSL2_D_GND, J9 HSSL2_D_GND, J10 GND, J13 GND, J14 GND, J18 GND, J22 GND, J26 GND, J30 GND, J34 HSSL3_D_GND, J35 HSSL3_D_GND, J36 HSSL3_D_GND, J37 HSSL3_D_GND, J38 HSSL3_D_GND, J39 HSSL3_D_GND, J40 HSSL3_D_GND, J41 HSSL3_D_GND, K1 GND, K9 GND, K10 VDDCORE, K11 GND, K12 VDD2V5A, K13 GND, K17 GND, K21 GND, K25 GND, K29 GND, K33 GND, K34 GND, K38 GND, L4 GND, L10 GND, L11 VDDCORE, L12 GND, L13 VDDCORE, M6 GND, M10 VDD2V5A, M11 GND, M12 VDDCORE, M13 GND, M36 GND, M40 GND, N1 GND, N9 GND, N10 GND, N11 VDDCORE, N12 GND, N13 VDDCORE, N34 GND, N38 GND, P1 GND, P9 GND, P10 VDDCORE, P11 GND, P12 VDDCORE, P13 GND, P14 GND, P15 VDD2V5A, P17 GND, P18 GND, P19 VDD2V5A, P21 GND, P22 GND, P23 VDD2V5A, P25 GND, P26 GND, P27 VDD2V5A, P29 GND, P30 GND, P31 VDD2V5A, P33 GND, R4 GND, R10 GND, R11 VDDCORE, R12 GND, R13 VDDCORE, R14 GND, R15 VDDCORE, R16 GND, R17 VDDCORE, R18 GND, R19 VDDCORE, R20 GND, R21 VDDCORE, R22 GND, R23 VDDCORE, R24 GND, R25 VDDCORE, R26 GND, R27 VDDCORE, R28 GND, R29 VDDCORE, R30 GND, R31 VDDCORE, R32 GND, R33 VDD2V5A, R36 GND, R40 GND, T6 GND, T10 VDD2V5A, T11 GND, T12 VDDCORE, T13 GND, T14 VDDCORE, T15 GND, T16 VDDCORE, T17 GND, T18 VDDCORE, T19 GND, T20 VDDCORE, T21 GND, T22 VDDCORE, T23 GND, T24 VDDCORE, T25 GND, T26 VDDCORE, T27 GND, T28 VDDCORE, T29 GND, T30 VDDCORE, T31 GND, T32 VDDCORE, T33 GND, T34 GND, T38 GND, U1 GND, U9 GND, U10 GND, U11 VDDCORE, U12 GND, U13 VDDCORE, U14 GND, U15 VDDCORE, U16 GND, U17 VDDCORE, U18 GND, U19 VDDCORE, U20 GND, U21 VDDCORE, U22 GND, U23 VDDCORE, U24 GND, U25 VDDCORE, U26 GND, U27 VDDCORE, U28 GND, U29 VDDCORE, U30 GND, U31 VDDCORE, U32 GND, U33 VDD2V5A, V1 GND, V9 GND, V10 VDDCORE, V11 GND, V12 VDDCORE, V13 GND, V14 VDDCORE, V15 GND, V16 VDDCORE, V17 GND, V18 VDDCORE, V19 GND, V20 VDDCORE, V21 GND, V22 VDDCORE, V23 GND, V24 VDDCORE, V25 GND, V26 VDDCORE, V27 GND, V28 VDDCORE, V29 GND, V30 VDDCORE, V31 GND, V32 VDDCORE, V33 GND, V36 GND, V40 GND, W4 GND, W10 GND, W11 VDDCORE, W12 GND, W13 VDDCORE, W14 GND, W15 VDDCORE, W16 GND, W17 VDDCORE, W18 GND, W19 VDDCORE, W20 GND, W21 VDDCORE, W22 GND, W23 VDDCORE, W24 GND, W25 VDDCORE, W26 GND, W27 VDDCORE, W28 GND, W29 VDDCORE, W30 GND, W31 VDDCORE, W32 GND, W33 VDDCORE, W34 GND, W38 GND, Y6 GND, Y10 VDD2V5A, Y11 GND, Y12 VDDCORE, Y13 GND, Y14 VDDCORE, Y15 GND, Y16 VDDCORE, Y17 GND, Y18 VDDCORE, Y19 GND, Y20 VDDCORE, Y21 GND, Y22 VDDCORE, Y23 GND, Y24 VDDCORE, Y25 GND, Y26 VDDCORE, Y27 GND, Y28 VDDCORE, Y29 GND, Y30 VDDCORE, Y31 GND, Y32 VDDCORE, Y33 VDD2V5A
part A text: SpaceWire Config.
part B text: Simple Banks
part C text: Simple Banks
part D text: Simple Banks
part E text: Simple Banks
part F text: Simple Banks
part G text: Simple Banks
part H text: BANK 7; BANK 6; Complex Banks
part I text: BANK 9; BANK 8; Complex Banks
part J text: BANK 10; Complex Banks
part K text: BANK 20; BANK 19; Complex Banks
part L text: BANK 22; BANK 21; Complex Banks
part M text: BANK 23; Complex Banks
part N text: HSSL 0
part O text: HSSL 1
part P text: HSSL 2
part Q text: HSSL 3

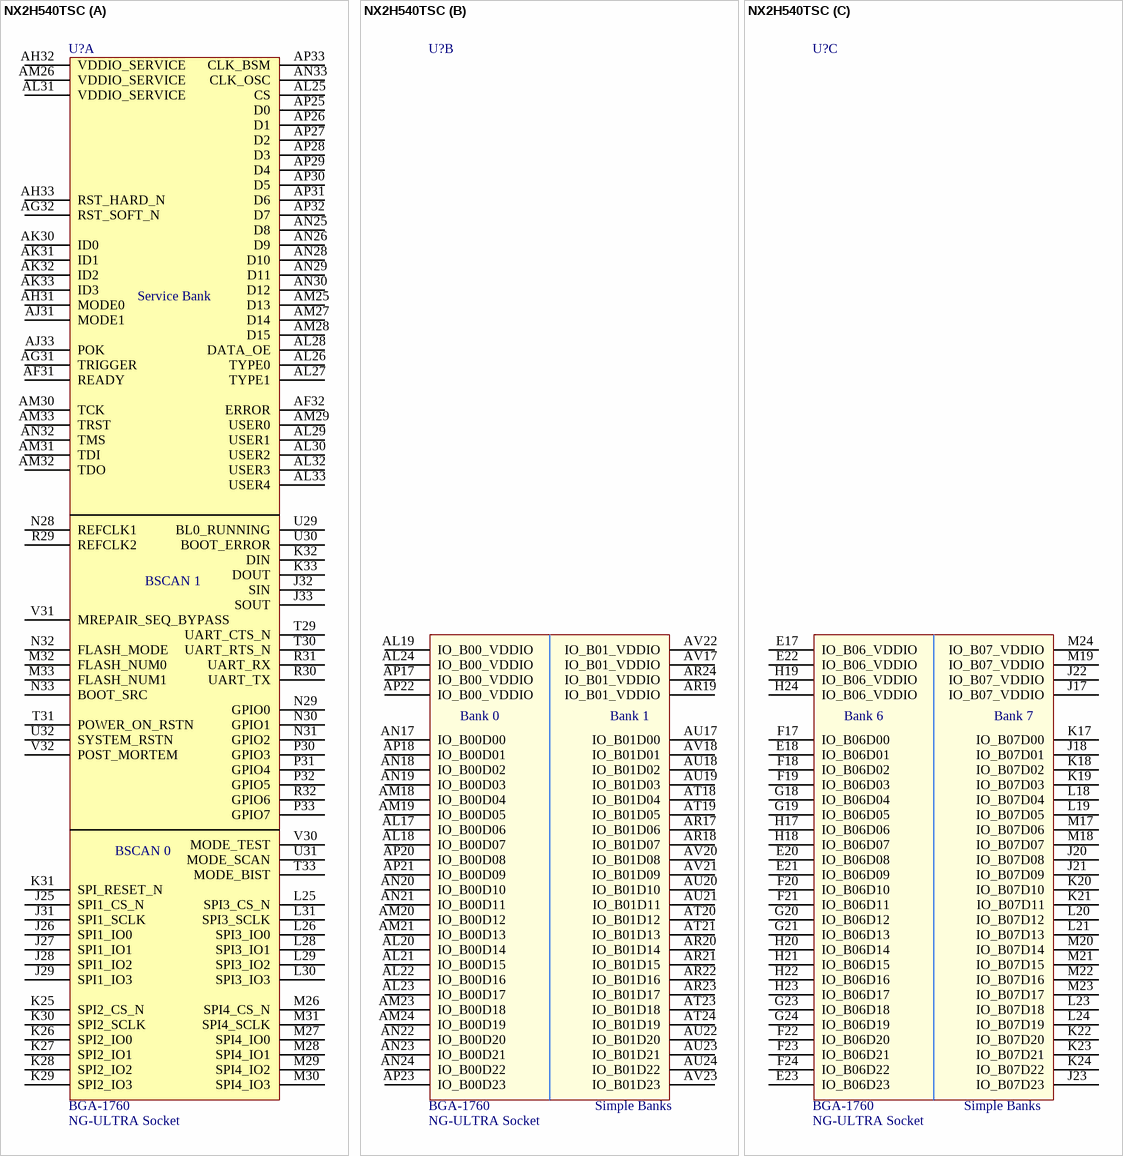
[diagram p22: symbol NX2H540TSC]

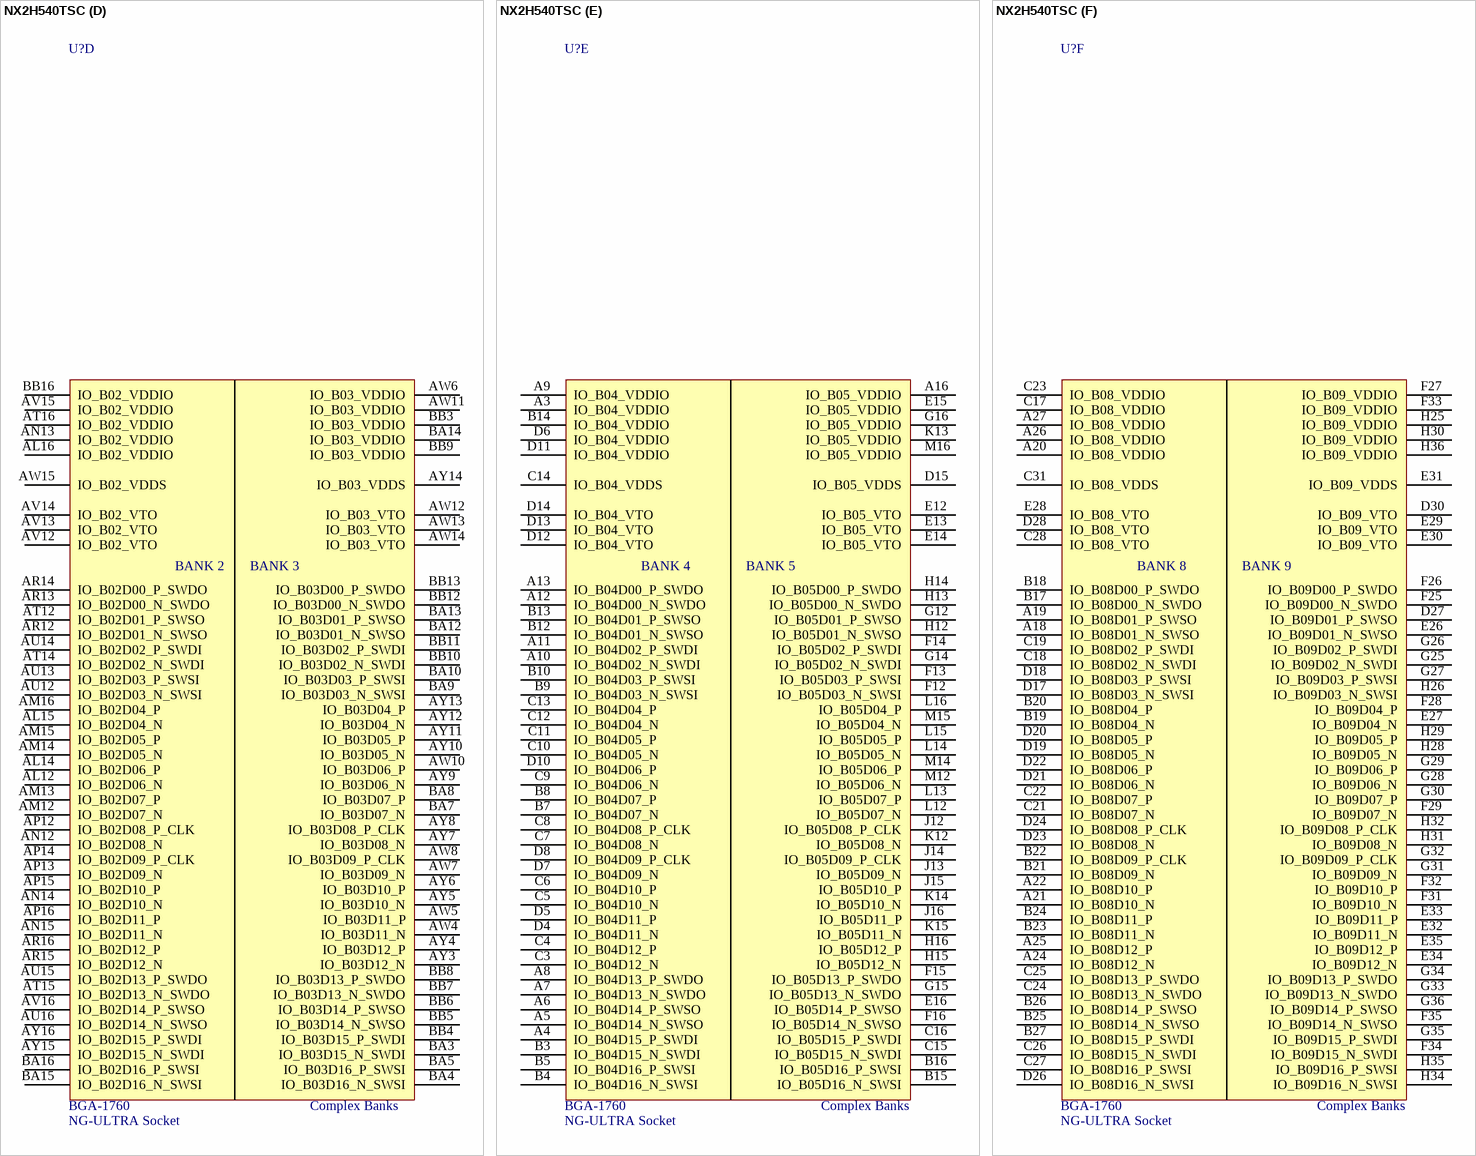
[diagram p23: symbol NX2H540TSC]

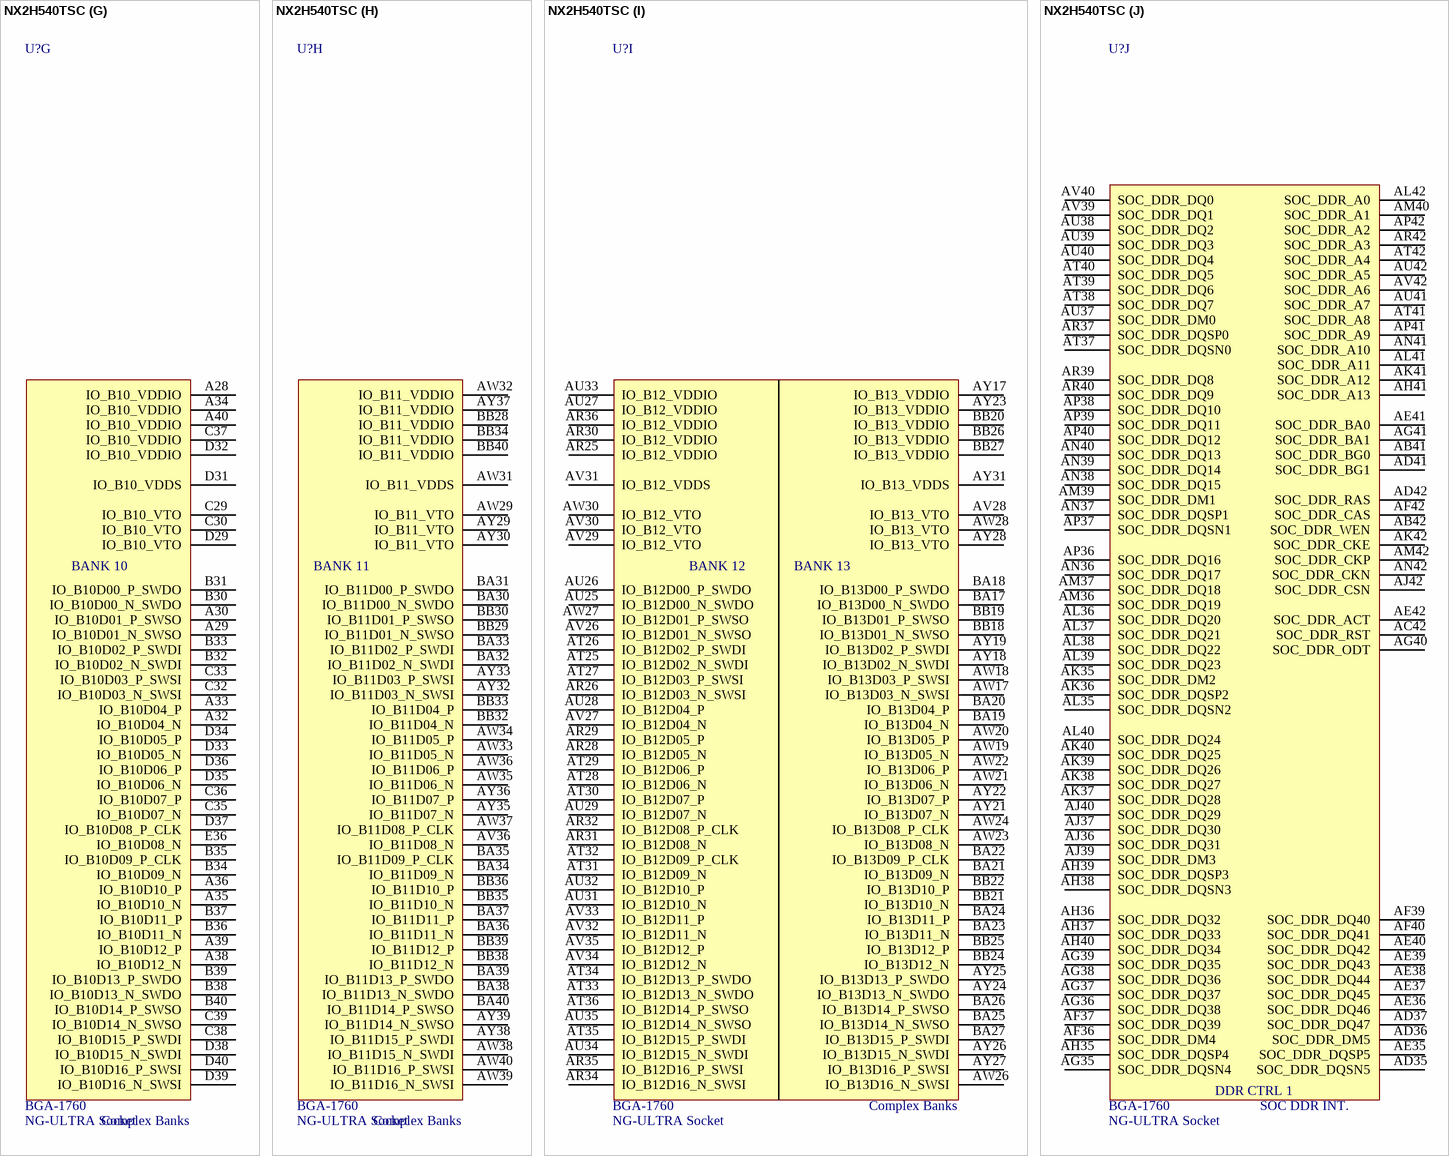
[diagram p24: symbol NX2H540TSC]

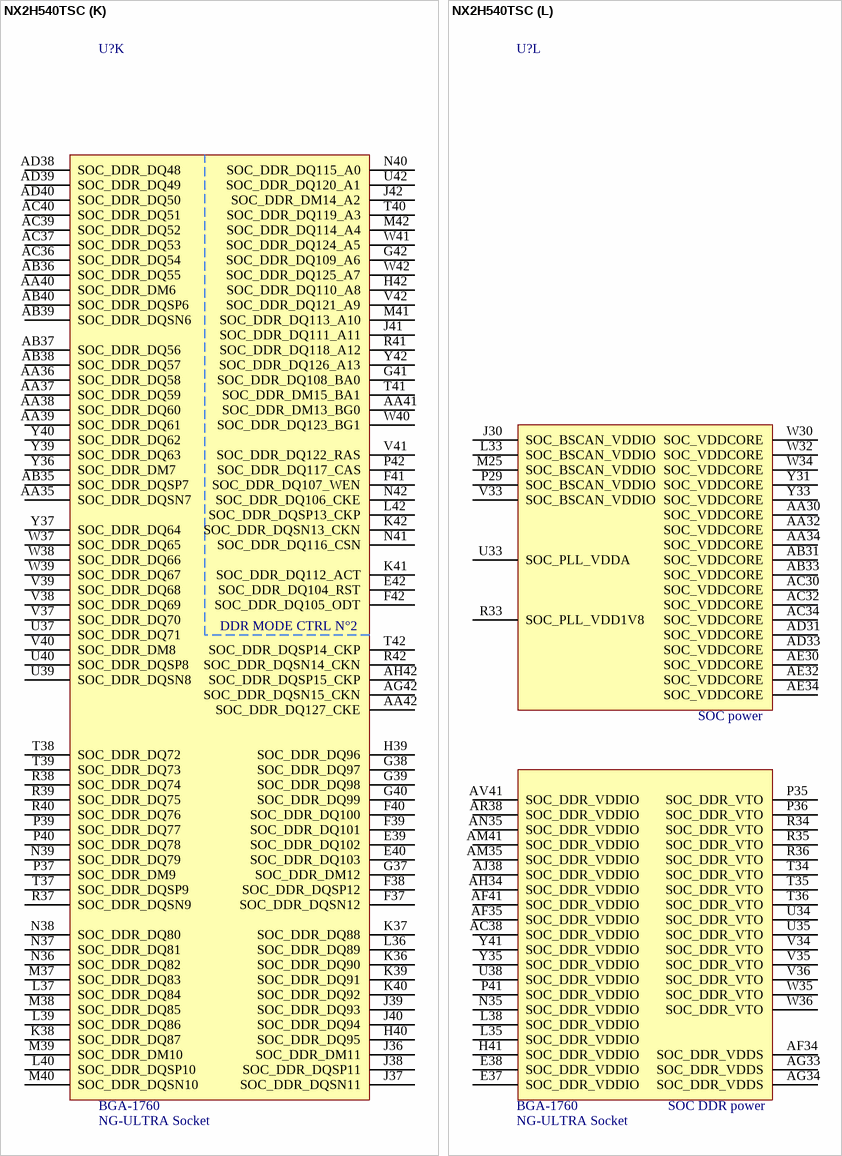
[diagram p25: symbol NX2H540TSC]

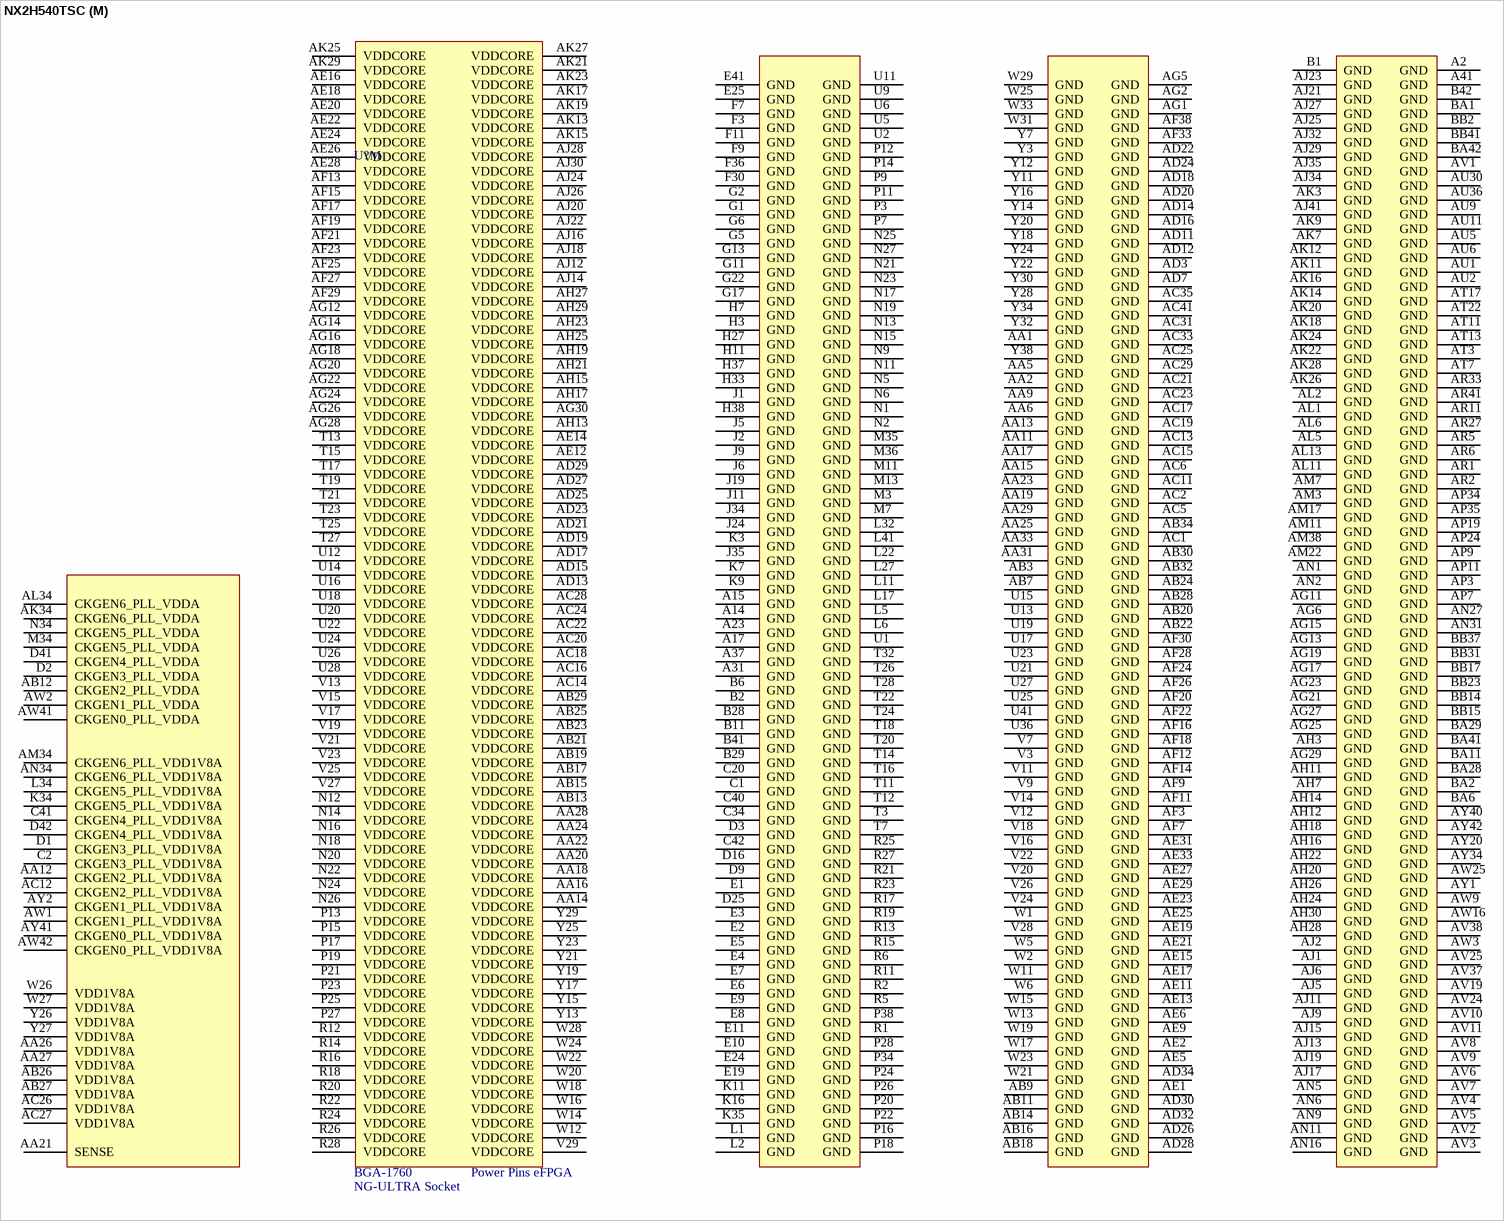
[diagram p26: symbol NX2H540TSC]

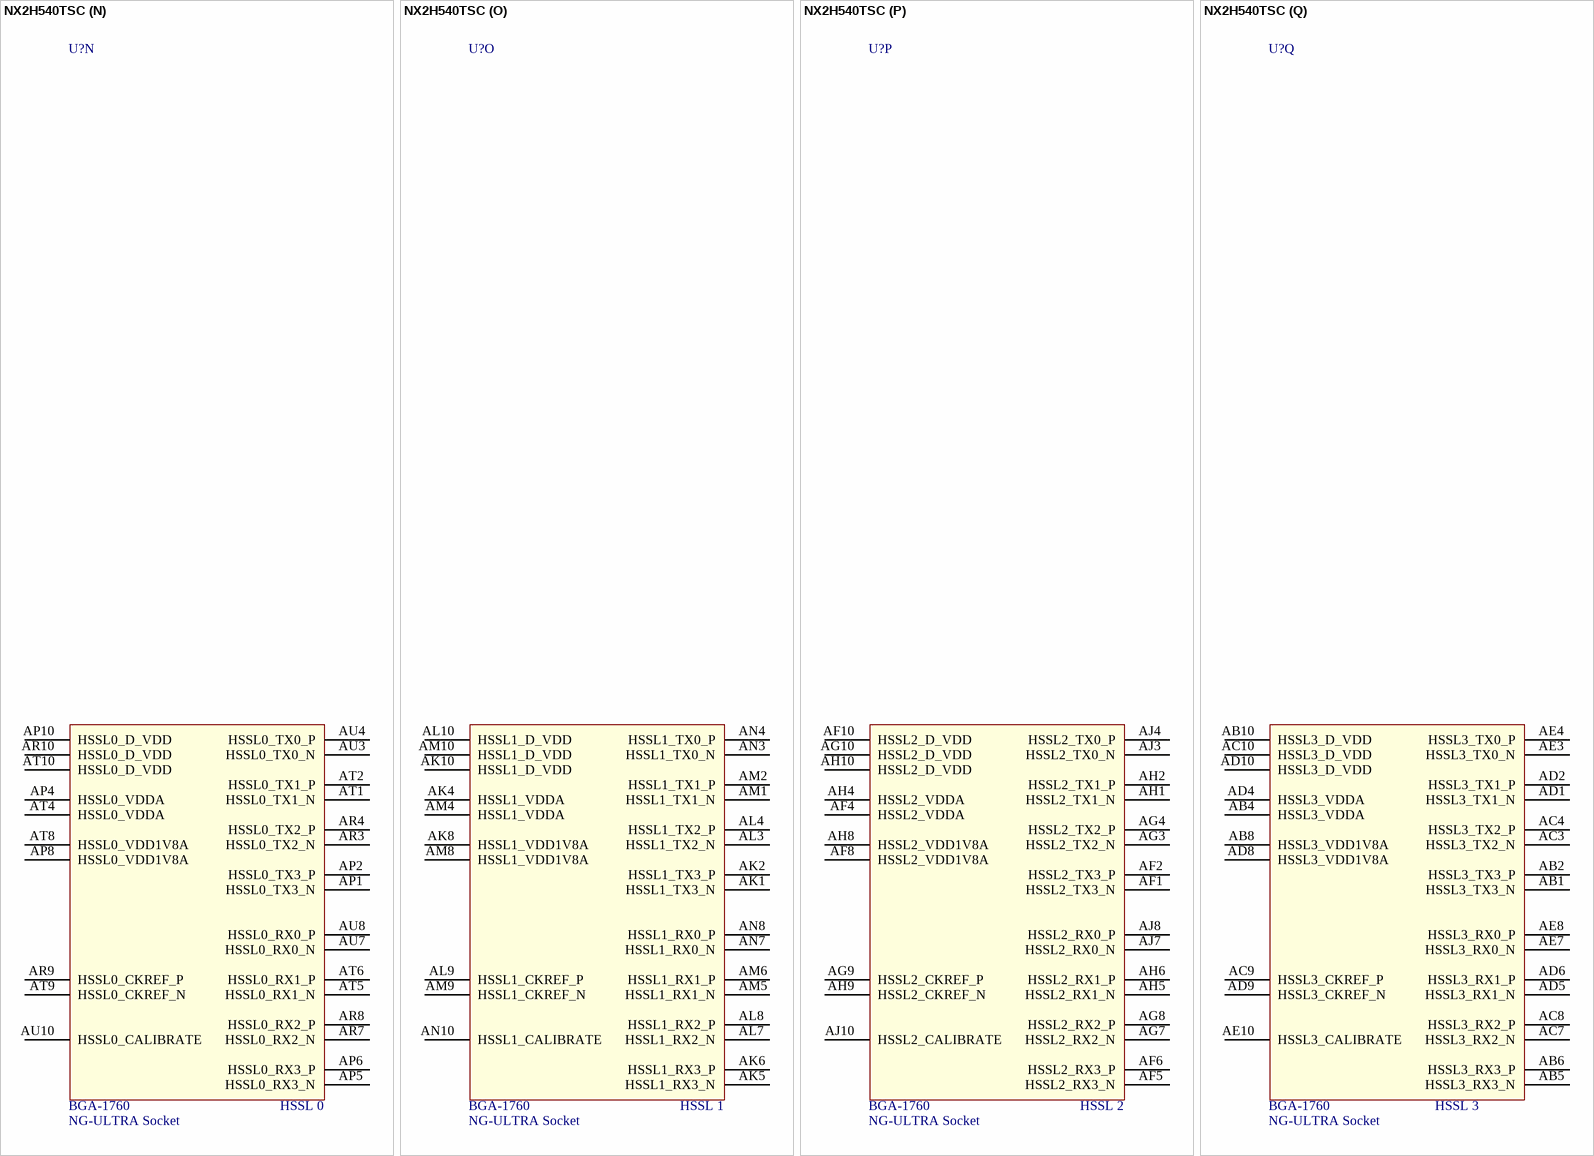
[diagram p27: symbol NX2H540TSC]

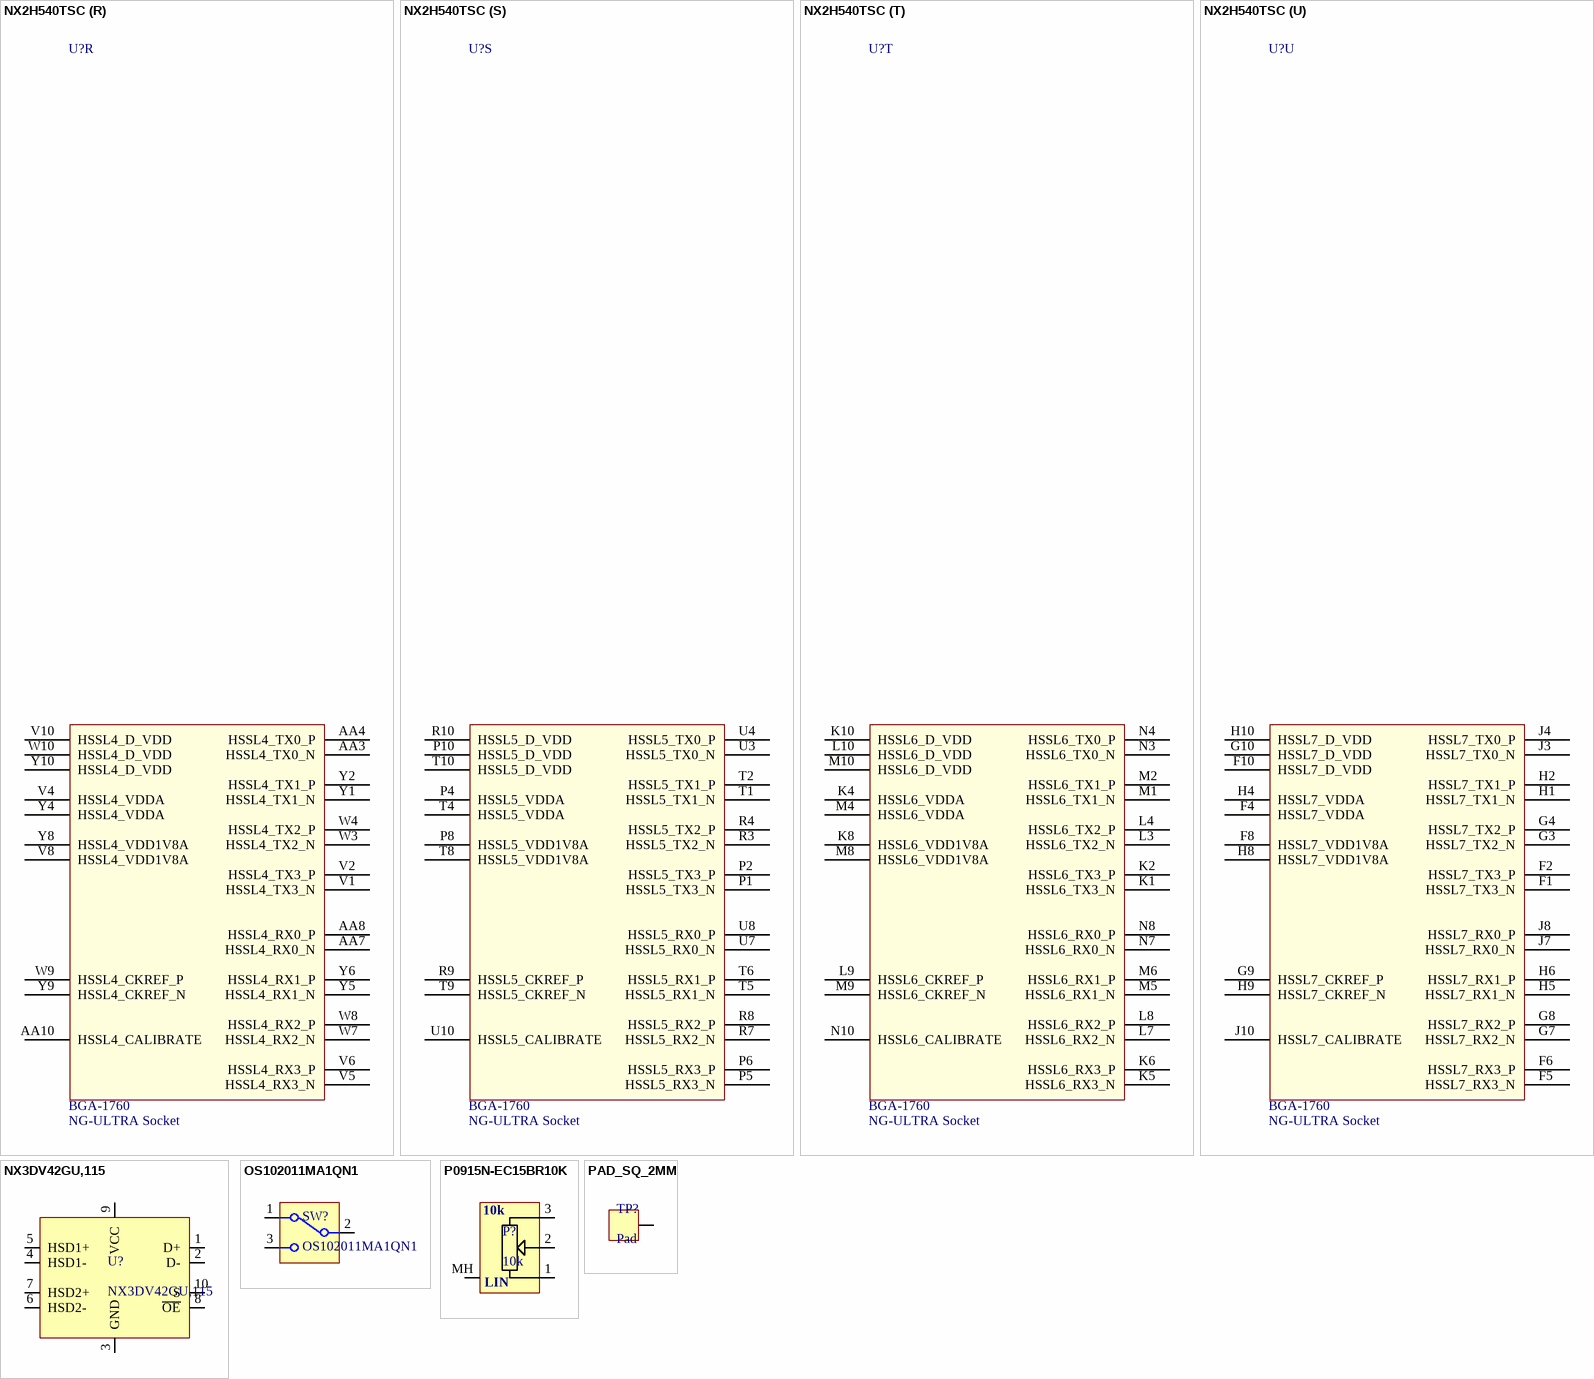
[diagram p28: symbols NX2H540TSC to PAD_SQ_2MM]